# Altium schematic symbol library Button - Push.SchLib: 3 symbols
Pins are listed as number, name and electrical type; pins without a type are passive.

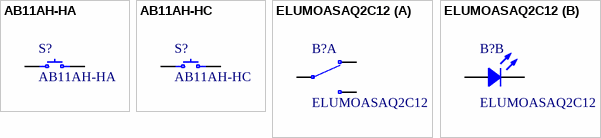
[diagram p0: symbols AB11AH-HA to ELUMOASAQ2C12]

## AB11AH-HA
designator S?
SWITCH PUSH SPST-NO 0.4VA 28V; Manufacturer: NKK Switches; Switch Function: Off-Mom; Actuator Type: Round, Button; Mechanical Life: 50,000 Cycles; Part Number: AB11AH-HA; PartId: 16470; Supplier 1: Digi-Key; Supplier Part Number 1: 360-2703-ND; ComponentLink1Description: Datasheet; ComponentLink1URL: http://2t70un3m1d9z1kztamkdrd38.wpengine.netdna-cdn.com/wp-content/uploads/2016/02/Apushbuttons-2.pdf; ComponentLink2Description: Digi-Key Listing; ComponentLink2URL: http://www.digikey.com/product-detail/en/nkk-switches/AB11AH-HA/360-2703-ND/1056050; Price: 5; TYPE: Standard; Series: AB; Circuit: SPST-NO; Illumination Voltage: -; Illumination Type, Colour: -; Operating Temperature: -30C ~ 85C
footprint NKK AB11AH-HA
pins: 1, 3

## AB11AH-HC
designator S?
SWITCH PUSH SPST-NO 0.4VA 28V; Manufacturer: NKK Switches; Switch Function: Off-Mom; Actuator Type: Round, Button; Mechanical Life: 50,000 Cycles; Part Number: AB11AH-HC; PartId: 16763; Supplier 1: Digi-Key; Supplier Part Number 1: 360-2604-ND; ComponentLink1Description: Datasheet; ComponentLink1URL: http://2t70un3m1d9z1kztamkdrd38.wpengine.netdna-cdn.com/wp-content/uploads/2016/02/Apushbuttons-2.pdf; ComponentLink2Description: Digi-Key Listing; ComponentLink2URL: http://www.digikey.com/product-detail/en/nkk-switches/AB11AH-HC/360-2604-ND/1056046; Price: 5; TYPE: Standard; Series: AB; Circuit: SPST-NO; Illumination Voltage: -; Illumination Type, Colour: -; Operating Temperature: -30C ~ 85C
footprint NKK AB11AH-HC
pins: 1, 3

## ELUMOASAQ2C12
designator B?
SWITCH PUSH SPDT 0.25A 50V; Manufacturer: C&K Components; Switch Function: On-Mom; Actuator Type: Rectangular, Button; Illumination Voltage: 2 VDC; Illumination Type, Colour: LED, Red/Green; Part Number: ELUMOASAQ2C12; PartId: 16448; Supplier 1: Digi-Key; Supplier Part Number 1: CKN9035TR-ND; ComponentLink1Description: Datasheet; ComponentLink1URL: http://www.ck-components.com/media/1405/elum_12feb16.pdf; ComponentLink2Description: Digi-Key Listing; ComponentLink2URL: http://www.digikey.com/product-detail/en/c-k-components/ELUMOASAQ2C12/CKN9035TR-ND/806005; Price: 4.5713; TYPE: Standard, Illuminated; Series: ELUM; Circuit: SPDT; Mechanical Life: -; Operating Temperature: -40C ~ 80C
footprint C&K ELUMOASAQ2C12
part A pins: 2 NO, 3 C, 4 NC
part B pins: 1 C, 5 A